# Altium schematic symbol library S100 Breakout SCHLIB.SchLib: 1 symbol
Pins are listed as number, name and electrical type; pins without a type are passive.

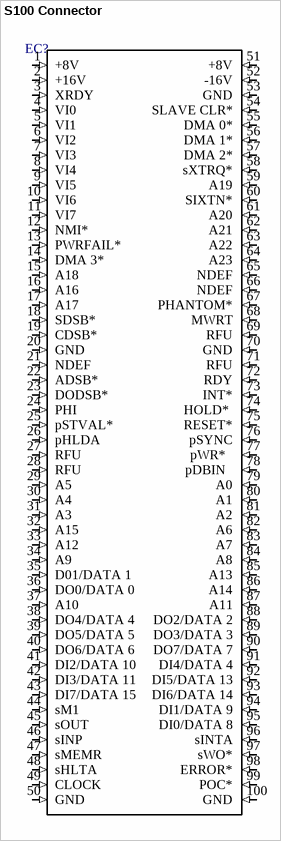
[diagram p0: symbol S100 Connector]

## S100 Connector
designator EC?
footprint S100
pins: 1 +8V (in), 2 +16V (in), 3 XRDY (in), 4 VI0 (in), 5 VI1 (in), 6 VI2 (in), 7 VI3 (in), 8 VI4 (in), 9 VI5 (in), 10 VI6 (in), 11 VI7 (in), 12 NMI* (in), 13 PWRFAIL* (in), 14 DMA 3* (in), 15 A18  (in), 16 A16   (in), 17 A17 (in), 18 SDSB* (in), 19 CDSB* (in), 20 GND (in), 21 NDEF (in), 22 ADSB* (in), 23 DODSB* (in), 24 PHI (in), 25 pSTVAL* (in), 26 pHLDA (in), 27 RFU (in), 28 RFU (in), 29 A5 (in), 30 A4 (in), 31 A3 (in), 32 A15 (in), 33 A12 (in), 34 A9 (in), 35 D01/DATA 1 (in), 36 DO0/DATA 0 (in), 37 A10 (in), 38 DO4/DATA 4 (in), 39 DO5/DATA 5 (in), 40 DO6/DATA 6 (in), 41 DI2/DATA 10 (in), 42 DI3/DATA 11 (in), 43 DI7/DATA 15 (in), 44 sM1 (in), 45 sOUT (in), 46 sINP (in), 47 sMEMR (in), 48 sHLTA (in), 49 CLOCK  (in), 50 GND (in), 51 +8V (in), 52 -16V (in), 53 GND (in), 54 SLAVE CLR* (in), 55 DMA 0* (in), 56 DMA 1* (in), 57 DMA 2* (in), 58 sXTRQ* (in), 59 A19 (in), 60 SIXTN* (in), 61 A20 (in), 62 A21 (in), 63 A22 (in), 64 A23 (in), 65 NDEF (in), 66 NDEF (in), 67 PHANTOM* (in), 68 MWRT (in), 69 RFU (in), 70 GND (in), 71 RFU (in), 72 RDY (in), 73 INT* (in), 74 HOLD*  (in), 75 RESET* (in), 76 pSYNC (in), 77 pWR*   (in), 78 pDBIN   (in), 79 A0 (in), 80 A1 (in), 81 A2 (in), 82 A6 (in), 83 A7 (in), 84 A8 (in), 85 A13 (in), 86 A14 (in), 87 A11 (in), 88 DO2/DATA 2 (in), 89 DO3/DATA 3 (in), 90 DO7/DATA 7 (in), 91 DI4/DATA 4 (in), 92 DI5/DATA 13 (in), 93 DI6/DATA 14 (in), 94 DI1/DATA 9 (in), 95 DI0/DATA 8 (in), 96 sINTA (in), 97 sWO* (in), 98 ERROR* (in), 99 POC* (in), 100 GND (in)